# Altium footprint library Integrated_Circuits.PcbLib: 13 footprints
Each footprint in its own frame and in the unit in brackets; x right, y up, seen from the top. Pads: shape width x height; smd on the part's side, far side on the other; paste and mask are expansions set on the pad; w line width, h text height; cw(c..) or ccw(c..) is an arc to the next point about the centre after c.
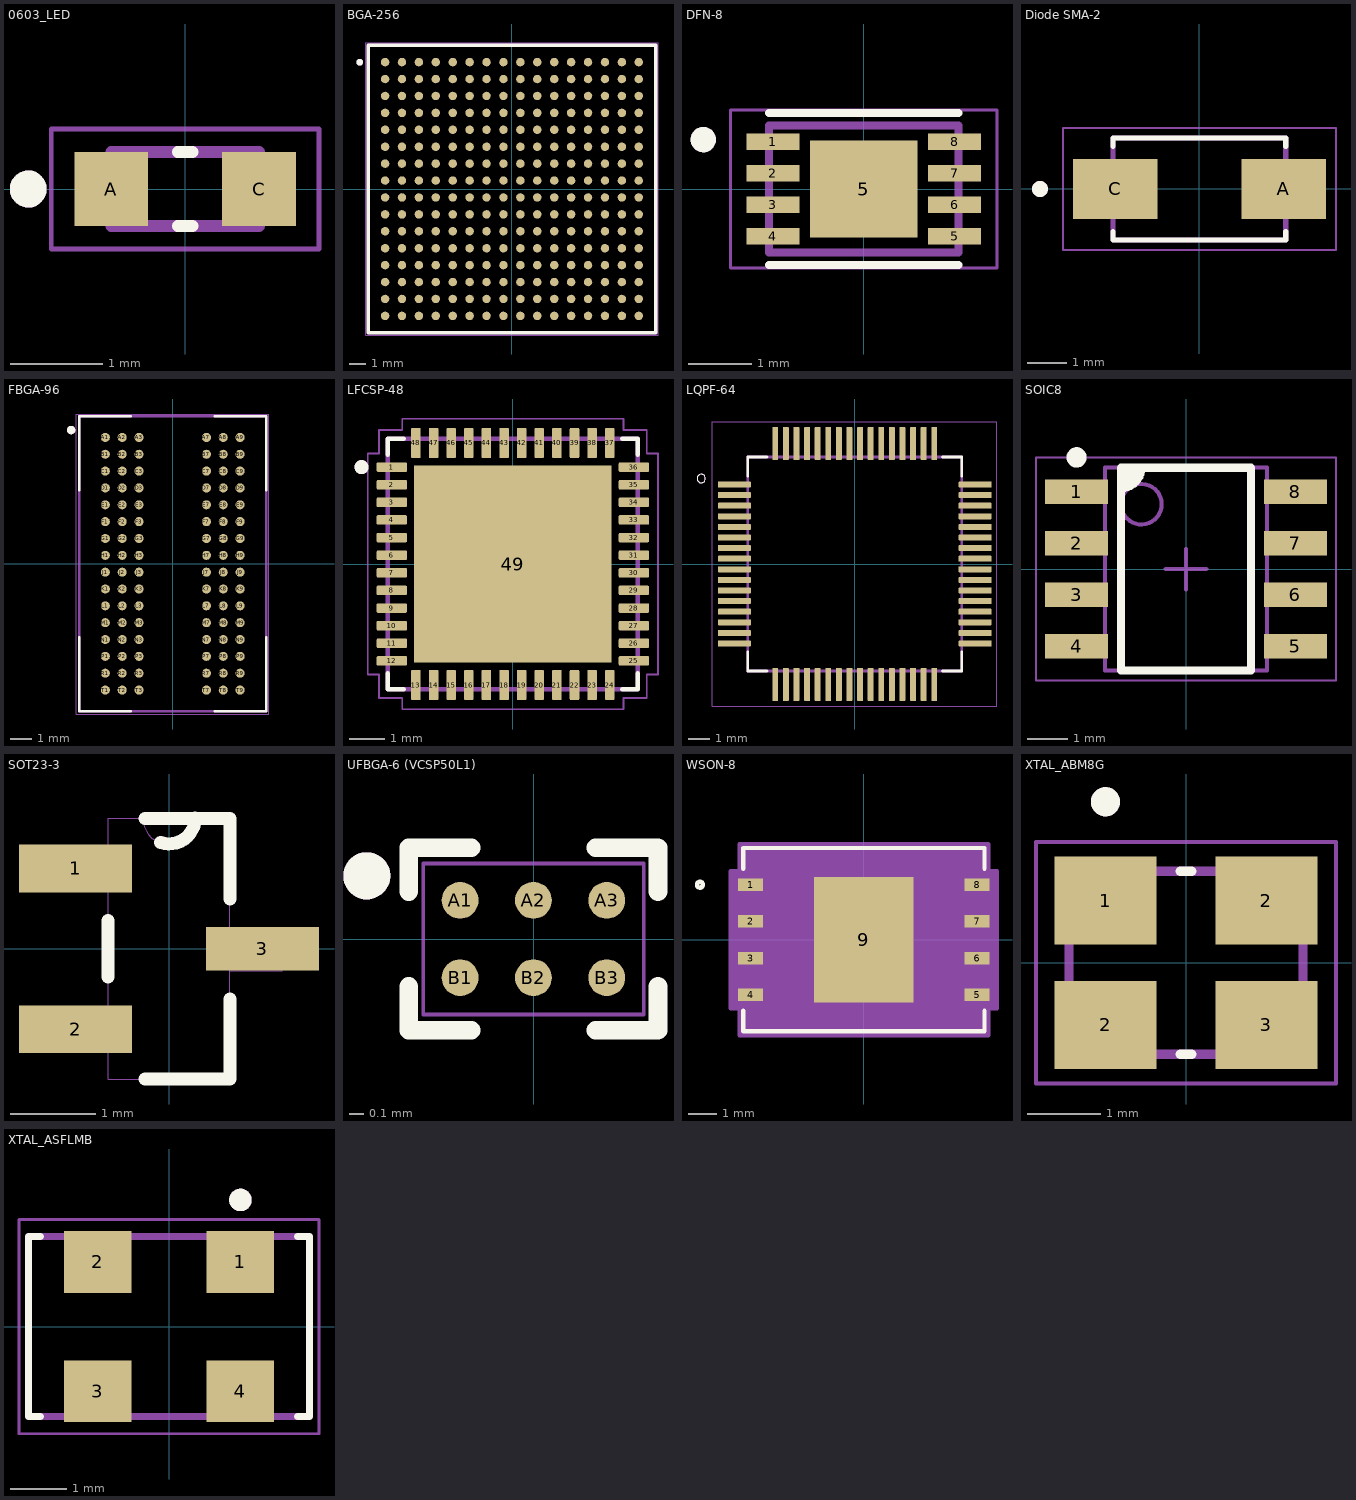
[diagram p0: the footprints below, top view; thin cyan lines are the x and y axes]

## 0603_LED [mm] "Led 0805"
pads (2):
  rect 0.8x0.8 smd: A(-0.8,0) C(0.8,0)
Top Overlay:
  circle w0.2: c-1.7,0 r0.1
  lines w0.127: -0.08,-0.4 0.08,-0.4 ; -0.08,0.4 0.08,0.4
Mechanical 13:
  circle w0.2: c-1.7,0 r0.1
  lines w0.127: -0.8,-0.4 0.8,-0.4 0.8,0.4 -0.8,0.4 -0.8,-0.4
Mechanical 15:
  lines w0.05: -1.45,-0.65 1.45,-0.65 1.45,0.65 -1.45,0.65 -1.45,-0.65
3D body "150060RS75000.STEP": height 0.8, standoff 0, extent -0.8,-0.4 0.8,0.4

## BGA-256 [mm] "BGA-256"
pads (256):
  round 0.5 smd: A1(-7.5,7.5) A2(-6.5,7.5) A3(-5.5,7.5) A4(-4.5,7.5) A5(-3.5,7.5) A6(-2.5,7.5) A7(-1.5,7.5) A8(-0.5,7.5) A9(0.5,7.5) A10(1.5,7.5) A11(2.5,7.5) A12(3.5,7.5) A13(4.5,7.5) A14(5.5,7.5) A15(6.5,7.5) A16(7.5,7.5) B1(-7.5,6.5) B2(-6.5,6.5) B3(-5.5,6.5) B4(-4.5,6.5) B5(-3.5,6.5) B6(-2.5,6.5) B7(-1.5,6.5) B8(-0.5,6.5) B9(0.5,6.5) B10(1.5,6.5) B11(2.5,6.5) B12(3.5,6.5) B13(4.5,6.5) B14(5.5,6.5) B15(6.5,6.5) B16(7.5,6.5) C1(-7.5,5.5) C2(-6.5,5.5) C3(-5.5,5.5) C4(-4.5,5.5) C5(-3.5,5.5) C6(-2.5,5.5) C7(-1.5,5.5) C8(-0.5,5.5) C9(0.5,5.5) C10(1.5,5.5) C11(2.5,5.5) C12(3.5,5.5) C13(4.5,5.5) C14(5.5,5.5) C15(6.5,5.5) C16(7.5,5.5) D1(-7.5,4.5) D2(-6.5,4.5) D3(-5.5,4.5) D4(-4.5,4.5) D5(-3.5,4.5) D6(-2.5,4.5) D7(-1.5,4.5) D8(-0.5,4.5) D9(0.5,4.5) D10(1.5,4.5) D11(2.5,4.5) D12(3.5,4.5) D13(4.5,4.5) D14(5.5,4.5) D15(6.5,4.5) D16(7.5,4.5) E1(-7.5,3.5) E2(-6.5,3.5) E3(-5.5,3.5) E4(-4.5,3.5) E5(-3.5,3.5) E6(-2.5,3.5) E7(-1.5,3.5) E8(-0.5,3.5) E9(0.5,3.5) E10(1.5,3.5) E11(2.5,3.5) E12(3.5,3.5) E13(4.5,3.5) E14(5.5,3.5) E15(6.5,3.5) E16(7.5,3.5) F1(-7.5,2.5) F2(-6.5,2.5) F3(-5.5,2.5) F4(-4.5,2.5) F5(-3.5,2.5) F6(-2.5,2.5) F7(-1.5,2.5) F8(-0.5,2.5) F9(0.5,2.5) F10(1.5,2.5) F11(2.5,2.5) F12(3.5,2.5) F13(4.5,2.5) F14(5.5,2.5) F15(6.5,2.5) F16(7.5,2.5) G1(-7.5,1.5) G2(-6.5,1.5) G3(-5.5,1.5) G4(-4.5,1.5) G5(-3.5,1.5) G6(-2.5,1.5) G7(-1.5,1.5) G8(-0.5,1.5) G9(0.5,1.5) G10(1.5,1.5) G11(2.5,1.5) G12(3.5,1.5) G13(4.5,1.5) G14(5.5,1.5) G15(6.5,1.5) G16(7.5,1.5) H1(-7.5,0.5) H2(-6.5,0.5) H3(-5.5,0.5) H4(-4.5,0.5) H5(-3.5,0.5) H6(-2.5,0.5) H7(-1.5,0.5) H8(-0.5,0.5) H9(0.5,0.5) H10(1.5,0.5) H11(2.5,0.5) H12(3.5,0.5) H13(4.5,0.5) H14(5.5,0.5) H15(6.5,0.5) H16(7.5,0.5) J1(-7.5,-0.5) J2(-6.5,-0.5) J3(-5.5,-0.5) J4(-4.5,-0.5) J5(-3.5,-0.5) J6(-2.5,-0.5) J7(-1.5,-0.5) J8(-0.5,-0.5) J9(0.5,-0.5) J10(1.5,-0.5) J11(2.5,-0.5) J12(3.5,-0.5) J13(4.5,-0.5) J14(5.5,-0.5) J15(6.5,-0.5) J16(7.5,-0.5) K1(-7.5,-1.5) K2(-6.5,-1.5) K3(-5.5,-1.5) K4(-4.5,-1.5) K5(-3.5,-1.5) K6(-2.5,-1.5) K7(-1.5,-1.5) K8(-0.5,-1.5) K9(0.5,-1.5) K10(1.5,-1.5) K11(2.5,-1.5) K12(3.5,-1.5) K13(4.5,-1.5) K14(5.5,-1.5) K15(6.5,-1.5) K16(7.5,-1.5) L1(-7.5,-2.5) L2(-6.5,-2.5) L3(-5.5,-2.5) L4(-4.5,-2.5) L5(-3.5,-2.5) L6(-2.5,-2.5) L7(-1.5,-2.5) L8(-0.5,-2.5) L9(0.5,-2.5) L10(1.5,-2.5) L11(2.5,-2.5) L12(3.5,-2.5) L13(4.5,-2.5) L14(5.5,-2.5) L15(6.5,-2.5) L16(7.5,-2.5) M1(-7.5,-3.5) M2(-6.5,-3.5) M3(-5.5,-3.5) M4(-4.5,-3.5) M5(-3.5,-3.5) M6(-2.5,-3.5) M7(-1.5,-3.5) M8(-0.5,-3.5) M9(0.5,-3.5) M10(1.5,-3.5) M11(2.5,-3.5) M12(3.5,-3.5) M13(4.5,-3.5) M14(5.5,-3.5) M15(6.5,-3.5) M16(7.5,-3.5) N1(-7.5,-4.5) N2(-6.5,-4.5) N3(-5.5,-4.5) N4(-4.5,-4.5) N5(-3.5,-4.5) N6(-2.5,-4.5) N7(-1.5,-4.5) N8(-0.5,-4.5) N9(0.5,-4.5) N10(1.5,-4.5) N11(2.5,-4.5) N12(3.5,-4.5) N13(4.5,-4.5) N14(5.5,-4.5) N15(6.5,-4.5) N16(7.5,-4.5) P1(-7.5,-5.5) P2(-6.5,-5.5) P3(-5.5,-5.5) P4(-4.5,-5.5) P5(-3.5,-5.5) P6(-2.5,-5.5) P7(-1.5,-5.5) P8(-0.5,-5.5) P9(0.5,-5.5) P10(1.5,-5.5) P11(2.5,-5.5) P12(3.5,-5.5) P13(4.5,-5.5) P14(5.5,-5.5) P15(6.5,-5.5) P16(7.5,-5.5) R1(-7.5,-6.5) R2(-6.5,-6.5) R3(-5.5,-6.5) R4(-4.5,-6.5) R5(-3.5,-6.5) R6(-2.5,-6.5) R7(-1.5,-6.5) R8(-0.5,-6.5) R9(0.5,-6.5) R10(1.5,-6.5) R11(2.5,-6.5) R12(3.5,-6.5) R13(4.5,-6.5) R14(5.5,-6.5) R15(6.5,-6.5) R16(7.5,-6.5) T1(-7.5,-7.5) T2(-6.5,-7.5) T3(-5.5,-7.5) T4(-4.5,-7.5) T5(-3.5,-7.5) T6(-2.5,-7.5) T7(-1.5,-7.5) T8(-0.5,-7.5) T9(0.5,-7.5) T10(1.5,-7.5) T11(2.5,-7.5) T12(3.5,-7.5) T13(4.5,-7.5) T14(5.5,-7.5) T15(6.5,-7.5) T16(7.5,-7.5)
Top Overlay:
  circle w0.2: c-9,7.5 r0.1
  lines w0.2: -8.5,-8.5 -8.5,8.5 8.5,8.5 8.5,-8.5 -8.5,-8.5
Top Solder:
  drawing of 256 lines, arcs and shapes, not listed
Mechanical 13:
  circle w0.2: c-9,7.5 r0.1
  lines w0.2: -8.5,-8.5 8.5,-8.5 8.5,8.5 -8.5,8.5 -8.5,-8.5
Mechanical 15:
  lines w0.05: -8.636,-8.636 -8.636,8.636 8.636,8.636 8.636,-8.636 -8.636,-8.636
3D body "ARTIX-7s-FTG256.step": height 1.4, standoff 0, extent -8.509,-8.491 8.491,8.509

## DFN-8 [mm]
pads (9):
  rect 0.84x0.26 smd: 1(-1.435,0.75) 2(-1.435,0.25) 3(-1.435,-0.25) 4(-1.435,-0.75) 5(1.435,-0.75) 6(1.435,-0.25) 7(1.435,0.25) 8(1.435,0.75)
  rect 1.7x1.525 smd paste-0.312: 5(0,0)
Top Overlay:
  circle w0.2: c-2.535,0.78 r0.1
  lines w0.127: -1.5,-1.2 1.5,-1.2 ; -1.5,1.2 1.5,1.2
Mechanical 13:
  circle w0.2: c-2.535,0.78 r0.1
  lines w0.127: -1.5,-1 1.5,-1 1.5,1 -1.5,1 -1.5,-1
Mechanical 15:
  lines w0.05: -2.105,-1.25 -2.105,1.25 2.105,1.25 2.105,-1.25 -2.105,-1.25
3D body "DFN-8 2x3.step": height 1, standoff 0, extent -1.525,-1 1.525,1

## Diode SMA-2 [mm]
pads (2):
  rect 2.12x1.5 smd: A(2.115,0) C(-2.115,0)
Top Overlay:
  circle w0.2: c-4,0 r0.1
  lines w0.127: -2.165,-1.07 -2.165,-1.28 2.165,-1.28 2.165,-1.07 ; -2.165,1.07 -2.165,1.28 2.165,1.28 2.165,1.07
Mechanical 13:
  circle w0.2: c-4,0 r0.1
  lines w0.127: -2.165,-1.28 2.165,-1.28 2.165,1.28 -2.165,1.28 -2.165,-1.28
Mechanical 15:
  lines w0.05: -3.425,-1.53 3.425,-1.53 3.425,1.53 -3.425,1.53 -3.425,-1.53
3D body "Diode SMA-2.STEP": height 2.5, standoff 0, extent -2.57,-1.28 2.57,1.28

## FBGA-96 [mm]
pads (96):
  round 0.43 smd: A1(-3.2,6) A2(-2.4,6) A3(-1.6,6) A7(1.6,6) A8(2.4,6) A9(3.2,6) B1(-3.2,5.2) B2(-2.4,5.2) B3(-1.6,5.2) B7(1.6,5.2) B8(2.4,5.2) B9(3.2,5.2) C1(-3.2,4.4) C2(-2.4,4.4) C3(-1.6,4.4) C7(1.6,4.4) C8(2.4,4.4) C9(3.2,4.4) D1(-3.2,3.6) D2(-2.4,3.6) D3(-1.6,3.6) D7(1.6,3.6) D8(2.4,3.6) D9(3.2,3.6) E1(-3.2,2.8) E2(-2.4,2.8) E3(-1.6,2.8) E7(1.6,2.8) E8(2.4,2.8) E9(3.2,2.8) F1(-3.2,2) F2(-2.4,2) F3(-1.6,2) F7(1.6,2) F8(2.4,2) F9(3.2,2) G1(-3.2,1.2) G2(-2.4,1.2) G3(-1.6,1.2) G7(1.6,1.2) G8(2.4,1.2) G9(3.2,1.2) H1(-3.2,0.4) H2(-2.4,0.4) H3(-1.6,0.4) H7(1.6,0.4) H8(2.4,0.4) H9(3.2,0.4) J1(-3.2,-0.4) J2(-2.4,-0.4) J3(-1.6,-0.4) J7(1.6,-0.4) J8(2.4,-0.4) J9(3.2,-0.4) K1(-3.2,-1.2) K2(-2.4,-1.2) K3(-1.6,-1.2) K7(1.6,-1.2) K8(2.4,-1.2) K9(3.2,-1.2) L1(-3.2,-2) L2(-2.4,-2) L3(-1.6,-2) L7(1.6,-2) L8(2.4,-2) L9(3.2,-2) M1(-3.2,-2.8) M2(-2.4,-2.8) M3(-1.6,-2.8) M7(1.6,-2.8) M8(2.4,-2.8) M9(3.2,-2.8) N1(-3.2,-3.6) N2(-2.4,-3.6) N3(-1.6,-3.6) N7(1.6,-3.6) N8(2.4,-3.6) N9(3.2,-3.6) P1(-3.2,-4.4) P2(-2.4,-4.4) P3(-1.6,-4.4) P7(1.6,-4.4) P8(2.4,-4.4) P9(3.2,-4.4) R1(-3.2,-5.2) R2(-2.4,-5.2) R3(-1.6,-5.2) R7(1.6,-5.2) R8(2.4,-5.2) R9(3.2,-5.2) T1(-3.2,-6) T2(-2.4,-6) T3(-1.6,-6) T7(1.6,-6) T8(2.4,-6) T9(3.2,-6)
Top Overlay:
  circle w0.2: c-4.826,6.35 r0.1
  lines w0.127: -4.445,-3.5 -4.445,-7 -2,-7 ; -4.445,3.5 -4.445,7 -2,7 ; 2,-7 4.445,-7 4.445,-3.5 ; 2,7 4.445,7 4.445,3.5
Mechanical 13:
  circle w0.2: c-4.826,6.35 r0.1
  lines w0.127: -4.445,-7 4.445,-7 4.445,7 -4.445,7 -4.445,-7
Mechanical 15:
  lines w0.05: -4.572,-7.137 -4.572,7.112 4.572,7.112 4.572,-7.137 -4.572,-7.137
3D body "FBGA-96.step": height 1.08, standoff -0.02, extent -4.5,-7 4.5,7

## LFCSP-48 [mm]
pads (49):
  rrect25% 0.86x0.27 smd: 1(-3.435,2.75) 2(-3.435,2.25) 3(-3.435,1.75) 4(-3.435,1.25) 5(-3.435,0.75) 6(-3.435,0.25) 7(-3.435,-0.25) 8(-3.435,-0.75) 9(-3.435,-1.25) 10(-3.435,-1.75) 11(-3.435,-2.25) 12(-3.435,-2.75) 25(3.435,-2.75) 26(3.435,-2.25) 27(3.435,-1.75) 28(3.435,-1.25) 29(3.435,-0.75) 30(3.435,-0.25) 31(3.435,0.25) 32(3.435,0.75) 33(3.435,1.25) 34(3.435,1.75) 35(3.435,2.25) 36(3.435,2.75)
  rrect25% 0.27x0.86 smd: 13(-2.75,-3.435) 14(-2.25,-3.435) 15(-1.75,-3.435) 16(-1.25,-3.435) 17(-0.75,-3.435) 18(-0.25,-3.435) 19(0.25,-3.435) 20(0.75,-3.435) 21(1.25,-3.435) 22(1.75,-3.435) 23(2.25,-3.435) 24(2.75,-3.435) 37(2.75,3.435) 38(2.25,3.435) 39(1.75,3.435) 40(1.25,3.435) 41(0.75,3.435) 42(0.25,3.435) 43(-0.25,3.435) 44(-0.75,3.435) 45(-1.25,3.435) 46(-1.75,3.435) 47(-2.25,3.435) 48(-2.75,3.435)
  rect 5.6x5.6 smd paste-4: 49(0,0)
Top Overlay:
  circle w0.2: c-4.295,2.75 r0.1
  lines w0.127: -3.55,-3.1 -3.55,-3.55 -3.1,-3.55 ; -3.55,3.1 -3.55,3.55 -3.1,3.55 ; 3.1,-3.55 3.55,-3.55 3.55,-3.1 ; 3.1,3.55 3.55,3.55 3.55,3.1
Top Paste:
  region: 1.771,-1.774 -1.774,-1.774 -1.774,1.771 1.771,1.771
Mechanical 13:
  circle w0.2: c-4.295,2.75 r0.1
  lines w0.127: -3.55,-3.55 3.55,-3.55 3.55,3.55 -3.55,3.55 -3.55,-3.55
Mechanical 15:
  lines w0.05: -4.12,-3.14 -3.8,-3.14 -3.8,-3.8 -3.14,-3.8 -3.14,-4.12 3.14,-4.12 3.14,-3.8 3.8,-3.8 3.8,-3.14 4.12,-3.14 4.12,3.14 3.8,3.14 3.8,3.8 3.14,3.8 3.14,4.12 -3.14,4.12 -3.14,3.8 -3.8,3.8 -3.8,3.14 -4.12,3.14 -4.12,-3.14
3D body "LFCSP-48.STEP": height 0.8, standoff 0, extent -3.5,-3.5 3.5,3.5

## LQPF-64 [mm]
pads (64):
  rrect25% 1.56x0.28 smd: 1(-5.68,3.75) 2(-5.68,3.25) 3(-5.68,2.75) 4(-5.68,2.25) 5(-5.68,1.75) 6(-5.68,1.25) 7(-5.68,0.75) 8(-5.68,0.25) 9(-5.68,-0.25) 10(-5.68,-0.75) 11(-5.68,-1.25) 12(-5.68,-1.75) 13(-5.68,-2.25) 14(-5.68,-2.75) 15(-5.68,-3.25) 16(-5.68,-3.75) 33(5.68,-3.75) 34(5.68,-3.25) 35(5.68,-2.75) 36(5.68,-2.25) 37(5.68,-1.75) 38(5.68,-1.25) 39(5.68,-0.75) 40(5.68,-0.25) 41(5.68,0.25) 42(5.68,0.75) 43(5.68,1.25) 44(5.68,1.75) 45(5.68,2.25) 46(5.68,2.75) 47(5.68,3.25) 48(5.68,3.75)
  rrect25% 0.28x1.56 smd: 17(-3.75,-5.68) 18(-3.25,-5.68) 19(-2.75,-5.68) 20(-2.25,-5.68) 21(-1.75,-5.68) 22(-1.25,-5.68) 23(-0.75,-5.68) 24(-0.25,-5.68) 25(0.25,-5.68) 26(0.75,-5.68) 27(1.25,-5.68) 28(1.75,-5.68) 29(2.25,-5.68) 30(2.75,-5.68) 31(3.25,-5.68) 32(3.75,-5.68) 49(3.75,5.68) 50(3.25,5.68) 51(2.75,5.68) 52(2.25,5.68) 53(1.75,5.68) 54(1.25,5.68) 55(0.75,5.68) 56(0.25,5.68) 57(-0.25,5.68) 58(-0.75,5.68) 59(-1.25,5.68) 60(-1.75,5.68) 61(-2.25,5.68) 62(-2.75,5.68) 63(-3.25,5.68) 64(-3.75,5.68)
Top Overlay:
  circle w0: c-7.24,4.03 r0.2
  lines w0.127: -5.05,-4.14 -5.05,-5.05 -4.14,-5.05 ; -5.05,4.15 -5.05,5.05 -4.14,5.05 ; 4.14,-5.05 5.05,-5.05 5.05,-4.14 ; 4.14,5.05 5.05,5.05 5.05,4.14
Mechanical 13:
  circle w0: c-7.24,4.03 r0.2
  lines w0.127: -5.05,-5.05 5.05,-5.05 5.05,5.05 -5.05,5.05 -5.05,-5.05
Mechanical 15:
  lines w0.05: -6.71,-6.71 6.71,-6.71 6.71,6.71 -6.71,6.71 -6.71,-6.71
3D body "LQFP-64.STEP": height 1.61, standoff 0.01, extent -6,-6 6,6

## SOIC8 [mm]
pads (8):
  rect 1.55x0.6 smd: 1(-2.7,1.905) 2(-2.7,0.635) 3(-2.7,-0.635) 4(-2.7,-1.905) 5(2.7,-1.905) 6(2.7,-0.635) 7(2.7,0.635) 8(2.7,1.905)
Top Overlay:
  circle w0.25: c-2.7,2.755 r0.125
  region: -1.6,2.5 -1.6,2 -1.4,2 -1.1,2.3 -1.1,2.5
  lines w0.2: -1.6,2 ccw(c-1.6,2.5) -1.1,2.5 ; -1.6,-2.5 1.6,-2.5 1.6,2.5 -1.6,2.5 -1.6,-2.5
Mechanical 13:
  circle w0.1: c-1.1,1.6 r0.5
  lines w0.1: -2,-2.5 2,-2.5 2,2.5 -2,2.5 -2,-2.5
Mechanical 15:
  lines w0.05: -3.7,-2.75 3.7,-2.75 3.7,2.75 -3.7,2.75 -3.7,-2.75
  lines w0.1: -0.5,0 0.5,0 ; 0,-0.5 0,0.5
3D body "SOIC-8.step": height 1.75, standoff 0, extent -3,-2.5 3,2.5

## SOT23-3 [mil]
pads (3):
  rect 52x22 smd: 1(-43,37) 2(-43,-37)
  rect 52x20 smd: 3(43,0)
Top Overlay:
  lines w6: -28,-13 -28,13 ; -11,-60 28,-60 28,-23 ; -11,60 12,60 28,60 28,23 ; -3.9,48.96 ccw(c0.15,60.1) 12,60.1
Mechanical 13:
  lines w0: -28,-47 -52,-47 -52,-28 -28,-28 ; -28,-47 -28,-28 ; -28,-47 -28,-60 28,-60 28,-10 ; -28,-28 -28,28 ; -28,28 -52,28 -52,47 -28,47 ; -28,28 -28,47 ; -28,47 -28,60 -12,60 ; -12,60 ccw(c0,60) 12,60 ; -12,60 12,60 ; 12,60 28,60 28,10 ; 28,-10 52,-10 52,10 28,10 ; 28,-10 28,10
3D body "SOT23.STEP": height 37.4, standoff 0, extent -47.24,-57.09 47.25,57.09

## UFBGA-6 (VCSP50L1) [mm]
pads (6):
  round 0.25 smd mask+0.05: A1(-0.501,0.265) A2(-0.004,0.265) A3(0.494,0.265) B1(-0.501,-0.26) B2(-0.004,-0.26) B3(0.494,-0.26)
Top Overlay:
  circle w0.2: c-1.134,0.431 r0.06
  lines w0.127: -0.849,-0.32 -0.849,-0.617 -0.426,-0.617 ; -0.849,0.325 -0.849,0.622 -0.426,0.622 ; 0.419,-0.617 0.841,-0.617 0.841,-0.32 ; 0.419,0.622 0.841,0.622 0.841,0.325
Mechanical 13:
  circle w0.2: c-1.134,0.431 r0.06
  lines w0.025: -0.751,-0.51 0.744,-0.51 0.744,0.515 -0.751,0.515 -0.751,-0.51
3D body "UFBGA-6 -VCSP50L1.STEP": height 0.54, standoff 0, extent -0.75,-0.5 0.75,0.5

## WSON-8 [mil]
pads (9):
  rect 34x17 smd paste+0 mask+0: 1(-154.5,75) 2(-154.5,25) 3(-154.5,-25) 4(-154.5,-75) 5(154.5,-75) 6(154.5,-25) 7(154.5,25) 8(154.5,75)
  rect 136x171 smd paste+0 mask+0: 9(0,0)
Top Overlay:
  circle w6: c-223.5,75 r4
  lines w6: -164.5,-96.6 -164.5,-125 164.5,-125 164.5,-96.6 ; -164.5,96.6 -164.5,125 164.5,125 164.5,96.6
Top Paste:
  region: -3.94,81.56 -64.06,81.56 -64.06,32.44 -3.94,32.44
  region: -3.94,24.56 -64.06,24.56 -64.06,-24.56 -3.94,-24.56
  region: -3.94,-32.44 -64.06,-32.44 -64.06,-81.56 -3.94,-81.56
  region: 64.06,81.56 3.94,81.56 3.94,32.44 64.06,32.44
  region: 64.06,24.56 3.94,24.56 3.94,-24.56 64.06,-24.56
  region: 64.06,-32.44 3.94,-32.44 3.94,-81.56 64.06,-81.56
Mechanical 13:
  circle w0: c-137.5,75 r3
  lines w0: -12,120 ccw(c0,120) 12,120
  lines w1: -159.5,-120 159.5,-120 159.5,120 -159.5,120 -159.5,-120
Mechanical 15:
  region: -169.5,-93.5 -181.5,-93.5 -181.5,93.5 -169.5,93.5 -169.5,130 169.5,130 169.5,93.5 181.5,93.5 181.5,-93.5 169.5,-93.5 169.5,-130 -169.5,-130
  lines w6: -181.5,-93.5 -181.5,93.5 -169.5,93.5 -169.5,130 169.5,130 169.5,93.5 181.5,93.5 181.5,-93.5 169.5,-93.5 169.5,-130 -169.5,-130 -169.5,-93.5 -181.5,-93.5
3D body "WSON8-8x6.STEP": height 30.32, standoff 0, extent -157.87,-118.11 157.88,118.11

## XTAL_ABM8G [mm] "XTAL"
pads (4):
  rect 1.4x1.2 smd: 1(-1.1,0.85) 2(-1.1,-0.85) 2(1.1,0.85) 3(1.1,-0.85)
Top Overlay:
  circle w0.2: c-1.1,2.2 r0.1
  lines w0.127: -0.08,-1.25 0.08,-1.25 ; -0.08,1.25 0.08,1.25
Mechanical 13:
  circle w0.2: c-1.1,2.2 r0.1
  lines w0.127: -1.6,-1.25 1.6,-1.25 1.6,1.25 -1.6,1.25 -1.6,-1.25
Mechanical 15:
  lines w0.05: -2.05,-1.651 2.05,-1.651 2.05,1.651 -2.05,1.651 -2.05,-1.651
3D body "ABM8G.STEP": height 1, standoff 0, extent -1.625,-1.27 1.575,1.23

## XTAL_ASFLMB [mm]
pads (4):
  rect 1.2x1.1 smd: 1(1.27,1.15) 2(-1.27,1.15) 3(-1.27,-1.15) 4(1.27,-1.15)
Top Overlay:
  circle w0.2: c1.27,2.25 r0.1
  lines w0.127: -2.29,-1.6 -2.5,-1.6 -2.5,1.6 -2.29,1.6 ; 2.29,-1.6 2.5,-1.6 2.5,1.6 2.29,1.6
Mechanical 13:
  circle w0.2: c1.27,2.25 r0.1
  lines w0.127: -2.5,-1.6 2.5,-1.6 2.5,1.6 -2.5,1.6 -2.5,-1.6
Mechanical 15:
  lines w0.05: -2.667,-1.905 2.667,-1.905 2.667,1.905 -2.667,1.905 -2.667,-1.905
3D body "ASFLMB.STEP": height 0.86, standoff 0.01, extent -2.474,-1.574 2.526,1.626